# EAGLE library part APA102 (library Botamochi-led)
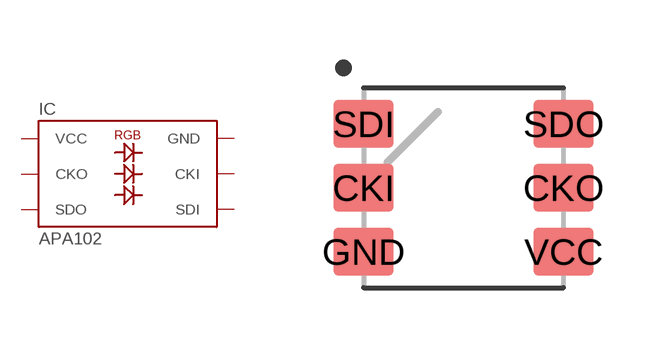
[diagram p0: symbol with the pads of APA102C-5050; footprint APA102C-5050]

Designator prefix IC

## APA102-5050  [APA102C-5050]
CKI  CKI  in
CKO  CKO  out
GND  GND  pwr
SDI  SDI  in
SDO  SDO  out
VCC  VCC  pwr

## Footprint APA102C-5050 (pad centres in mm)
APA102C/SK9822
smd 1.5 x 1.2: CKI -2.5,0; CKO 2.5,0; GND -2.5,-1.6; SDI -2.5,1.6; SDO 2.5,1.6; VCC 2.5,-1.6